# Altium footprint library INA236AIDDFR.PcbLib: 3 footprints
Each footprint in its own frame and in the unit in brackets; x right, y up, seen from the top. Pads: shape width x height; smd on the part's side, far side on the other; paste and mask are expansions set on the pad; w line width, h text height; cw(c..) or ccw(c..) is an arc to the next point about the centre after c.
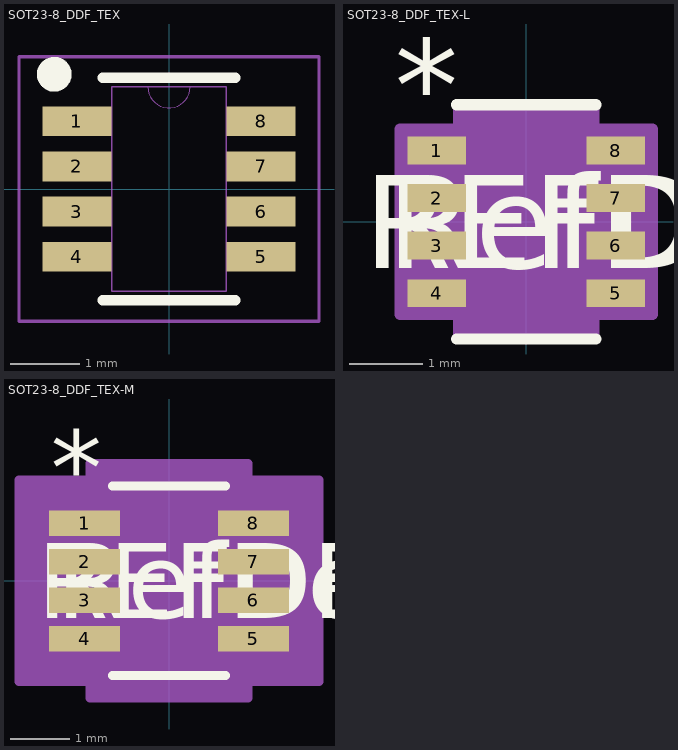
[diagram p0: the footprints below, top view; thin cyan lines are the x and y axes]

## SOT23-8_DDF_TEX [mm]
pads (8):
  rect 0.998x0.431 smd paste+0 mask+0: 1(-1.324,0.975) 2(-1.324,0.325) 3(-1.324,-0.325) 4(-1.324,-0.975) 5(1.324,-0.975) 6(1.324,-0.325) 7(1.324,0.325) 8(1.324,0.975)
Top Overlay:
  circle w0.25: c-1.651,1.651 r0.125
  lines w0.152: -0.953,-1.6 0.953,-1.6 ; -0.953,1.6 0.953,1.6
Mechanical 13:
  lines w0: -0.305,1.473 ccw(c0,1.473) 0.305,1.473
  lines w0.025: -1.473,-1.165 -1.473,-0.784 -0.826,-0.784 -0.826,-1.165 -1.473,-1.165 ; -1.473,-0.516 -1.473,-0.135 -0.826,-0.135 -0.826,-0.516 -1.473,-0.516 ; -1.473,0.135 -1.473,0.516 -0.826,0.516 -0.826,0.135 -1.473,0.135 ; -1.473,0.784 -1.473,1.165 -0.826,1.165 -0.826,0.784 -1.473,0.784 ; -0.826,-1.473 0.826,-1.473 0.826,1.473 -0.826,1.473 -0.826,-1.473 ; 0.826,-1.165 0.826,-0.784 1.473,-0.784 1.473,-1.165 0.826,-1.165 ; 0.826,-0.516 0.826,-0.135 1.473,-0.135 1.473,-0.516 0.826,-0.516 ; 0.826,0.135 0.826,0.516 1.473,0.516 1.473,0.135 0.826,0.135 ; 0.826,0.784 0.826,1.165 1.473,1.165 1.473,0.784 0.826,0.784
Mechanical 15:
  lines w0.05: -2.159,-1.905 2.159,-1.905 2.159,1.905 -2.159,1.905 -2.159,-1.905
3D body "DDF0008A.stp": height 0.9, standoff 0, extent -1.41,-1.45 1.41,1.45

## SOT23-8_DDF_TEX-L [mm]
pads (8):
  rect 0.798x0.381 smd paste+0 mask+0: 1(-1.224,0.975) 2(-1.224,0.325) 3(-1.224,-0.325) 4(-1.224,-0.975) 5(1.224,-0.975) 6(1.224,-0.325) 7(1.224,0.325) 8(1.224,0.975)
Top Overlay:
  lines w0.152: -0.953,-1.6 0.953,-1.6 ; -0.953,1.6 0.953,1.6
  text "REFDES" at -2.222,-0.635 h1.27
  text "*" at -1.796,1.229 h1.27
  text "RefDes" at -1.905,-0.635 h1.27
Mechanical 13:
  lines w0: -0.305,1.473 ccw(c0,1.473) 0.305,1.473
  lines w0.025: -1.473,-1.165 -1.473,-0.784 -0.826,-0.784 -0.826,-1.165 -1.473,-1.165 ; -1.473,-0.516 -1.473,-0.135 -0.826,-0.135 -0.826,-0.516 -1.473,-0.516 ; -1.473,0.135 -1.473,0.516 -0.826,0.516 -0.826,0.135 -1.473,0.135 ; -1.473,0.784 -1.473,1.165 -0.826,1.165 -0.826,0.784 -1.473,0.784 ; -0.826,-1.473 0.826,-1.473 0.826,1.473 -0.826,1.473 -0.826,-1.473 ; 0.826,-1.165 0.826,-0.784 1.473,-0.784 1.473,-1.165 0.826,-1.165 ; 0.826,-0.516 0.826,-0.135 1.473,-0.135 1.473,-0.516 0.826,-0.516 ; 0.826,0.135 0.826,0.516 1.473,0.516 1.473,0.135 0.826,0.135 ; 0.826,0.784 0.826,1.165 1.473,1.165 1.473,0.784 0.826,0.784
  text "*" at -0.762,0.127 h1.27
  text "RefDes2" at -2.222,-0.635 h1.27
Mechanical 15:
  region: -0.927,-1.267 -1.725,-1.267 -1.725,1.267 -0.927,1.267 -0.927,1.575 0.927,1.575 0.927,1.267 1.725,1.267 1.725,-1.267 0.927,-1.267 0.927,-1.575 -0.927,-1.575
  lines w0.152: -1.725,-1.267 -1.725,1.267 -0.927,1.267 -0.927,1.575 0.927,1.575 0.927,1.267 1.725,1.267 1.725,-1.267 0.927,-1.267 0.927,-1.575 -0.927,-1.575 -0.927,-1.267 -1.725,-1.267
3D body "SOT23-8_DDF_TEX.step": height 1.09, standoff 0, extent -1.473,-1.473 1.473,1.473

## SOT23-8_DDF_TEX-M [mm]
pads (8):
  rect 1.198x0.431 smd paste+0 mask+0: 1(-1.424,0.975) 2(-1.424,0.325) 3(-1.424,-0.325) 4(-1.424,-0.975) 5(1.424,-0.975) 6(1.424,-0.325) 7(1.424,0.325) 8(1.424,0.975)
Top Overlay:
  lines w0.152: -0.953,-1.6 0.953,-1.6 ; -0.953,1.6 0.953,1.6
  text "REFDES" at -2.222,-0.635 h1.27
  text "*" at -1.996,1.279 h1.27
  text "RefDes" at -1.905,-0.635 h1.27
Mechanical 13:
  lines w0: -0.305,1.473 ccw(c0,1.473) 0.305,1.473
  lines w0.025: -1.473,-1.165 -1.473,-0.784 -0.826,-0.784 -0.826,-1.165 -1.473,-1.165 ; -1.473,-0.516 -1.473,-0.135 -0.826,-0.135 -0.826,-0.516 -1.473,-0.516 ; -1.473,0.135 -1.473,0.516 -0.826,0.516 -0.826,0.135 -1.473,0.135 ; -1.473,0.784 -1.473,1.165 -0.826,1.165 -0.826,0.784 -1.473,0.784 ; -0.826,-1.473 0.826,-1.473 0.826,1.473 -0.826,1.473 -0.826,-1.473 ; 0.826,-1.165 0.826,-0.784 1.473,-0.784 1.473,-1.165 0.826,-1.165 ; 0.826,-0.516 0.826,-0.135 1.473,-0.135 1.473,-0.516 0.826,-0.516 ; 0.826,0.135 0.826,0.516 1.473,0.516 1.473,0.135 0.826,0.135 ; 0.826,0.784 0.826,1.165 1.473,1.165 1.473,0.784 0.826,0.784
  text "*" at -0.762,0.127 h1.27
  text "RefDes2" at -2.222,-0.635 h1.27
Mechanical 15:
  region: -1.333,-1.699 -2.531,-1.699 -2.531,1.699 -1.333,1.699 -1.333,1.981 1.333,1.981 1.333,1.699 2.531,1.699 2.531,-1.699 1.333,-1.699 1.333,-1.981 -1.333,-1.981
  lines w0.152: -2.531,-1.699 -2.531,1.699 -1.333,1.699 -1.333,1.981 1.333,1.981 1.333,1.699 2.531,1.699 2.531,-1.699 1.333,-1.699 1.333,-1.981 -1.333,-1.981 -1.333,-1.699 -2.531,-1.699
3D body "SOT23-8_DDF_TEX.step": height 1.09, standoff 0, extent -1.473,-1.473 1.473,1.473